# Altium integrated library microbuilder.IntLib: 530 symbols (part 7 of 7)
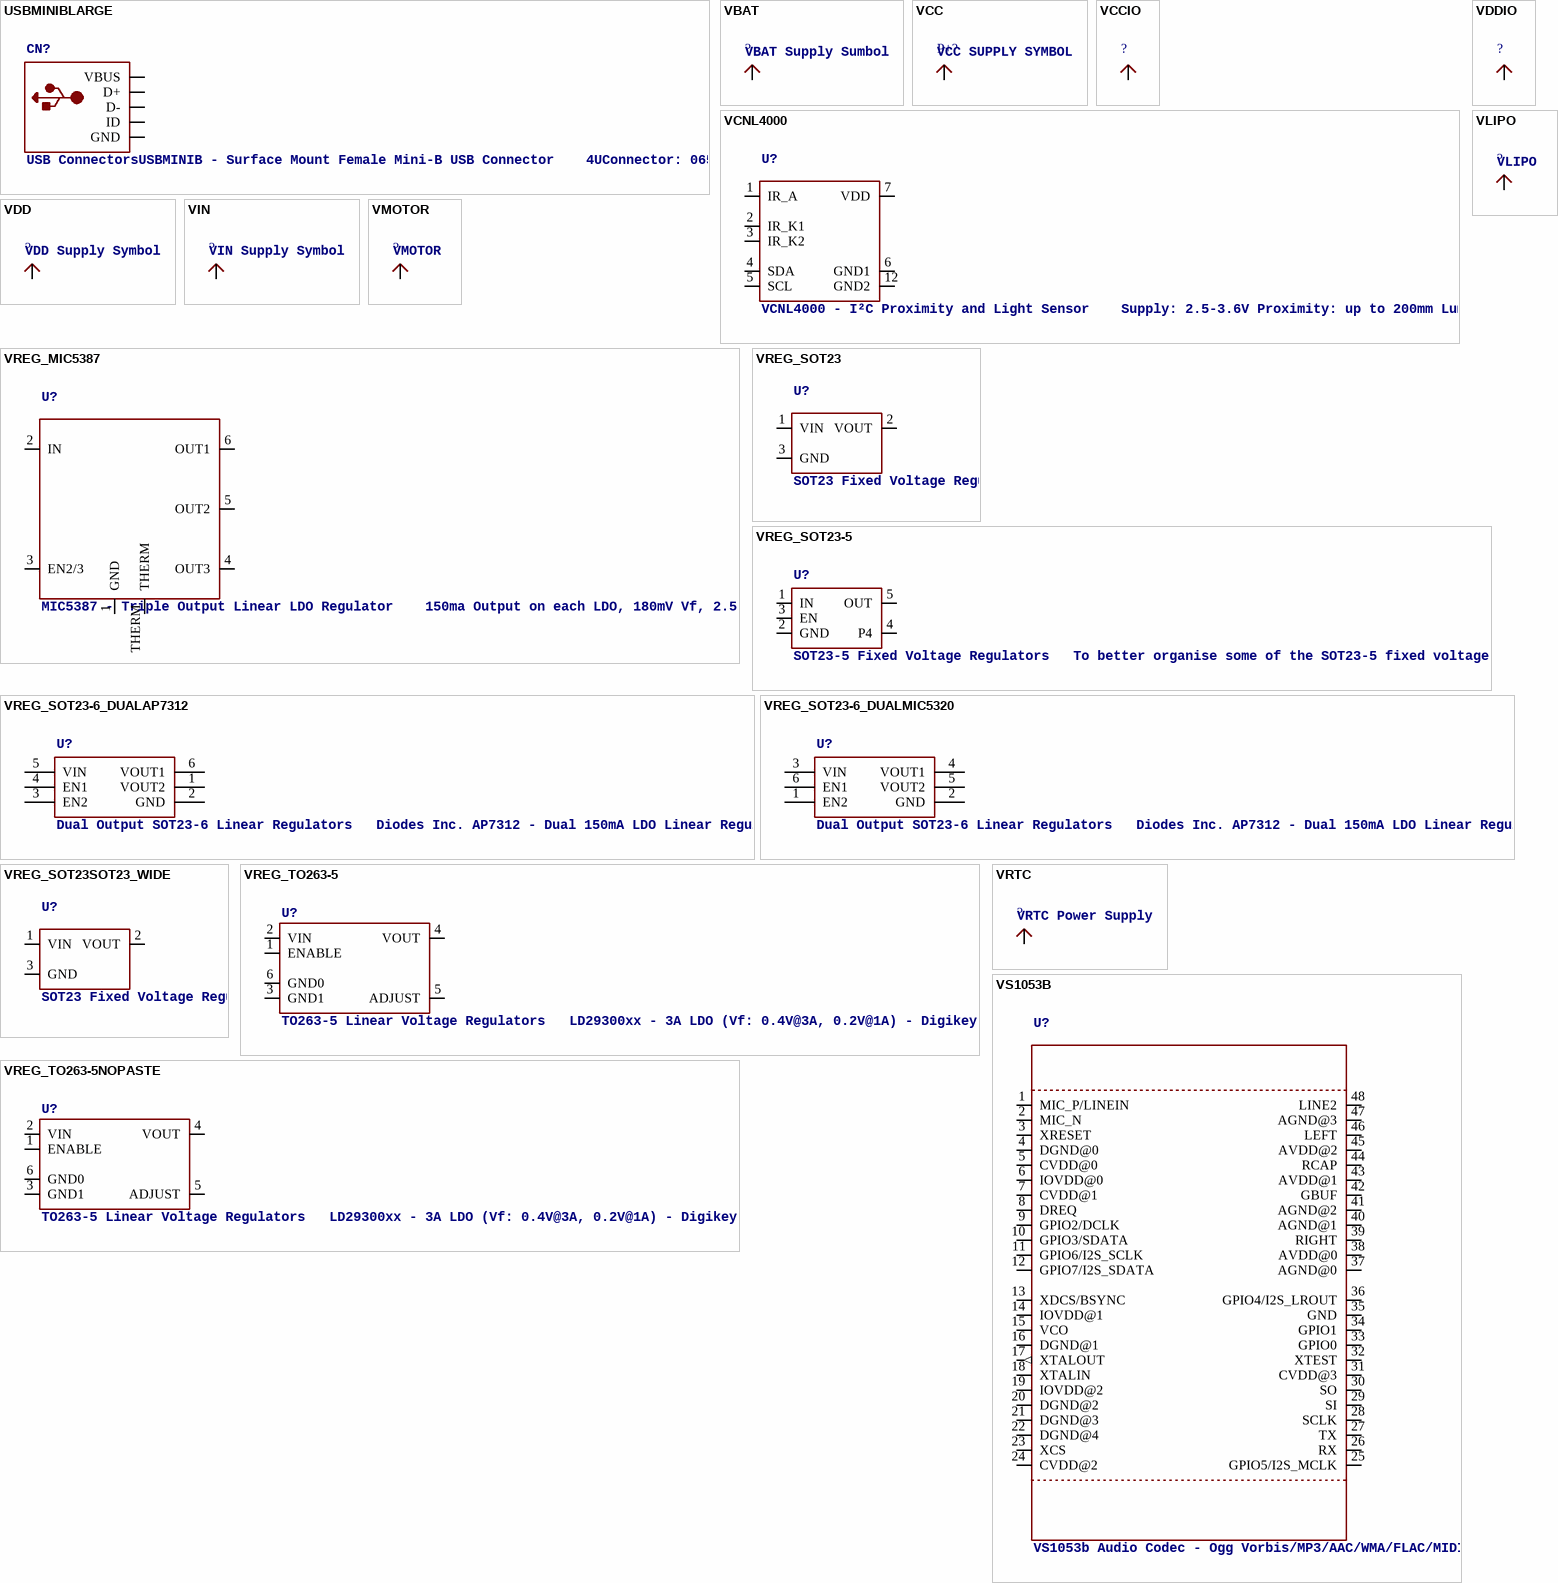
[diagram p58: symbols USBMINIBLARGE to VS1053B]

## VREG_SOT23-5
designator U?, comment SOT23-5 Fixed Voltage Regulators   To better organise some of the SOT23-5 fixed voltage regulators in this library, this new part was created.    Part	Current Out	V Out	V In	V Dropout	Digikey Part No.	     ADP121	  150mA	  3.3V	  3.4-5.5V	  0.09V @ 150mA	  ADP121-AUJZ33R7CT-ND	     ADP121	  150mA	  3.0V	  3.1-5.5V	  0.09V @ 150mA	  ADP121-AUJZ30R7CT-ND	     ADP122	  300mA	  3.3V	  3.4-5.5V	  0.085V @ 300mA	  ADP122AUJZ-3.3-R7CT-ND	     ADP1712	  300mA	  3.3V	  3.5-5.5V	  0.17V @ 300mA	  ADP1712AUJZ-3.3-R7TR-ND	     AP7311 (Low Cost)	  150mA	  3.3V	  3.5-6V	  0.15V @ 150mA	  AP7311-33WG-7DICT-ND	     LD39015M18R	  150mA	  1.8V	  1.9V-5.5V	  0.08V @ 100mA	  497-6977-1-ND	     MCP1824T-3302E/OT	  300mA	  3.3V	  3.5V-6V	  0.2V @ 300mA	  MCP1824T-3302E/OTCT-ND	     MIC5205-2.5YM5 TR	  150mA	  2.5V	  2.7-16V	  0.165V @ 150mA	  576-1257-2-ND	     MIC5205-3.0YM5 TR	  150mA	  3.0V	  3.2V-16V	  0.165V @ 150mA	  576-1258-2-ND	     MIC5205-3.3YM5 TR	  150mA	  3.3V	  3.5V-16V	  0.165V @ 150mA	  576-1259-2-ND	     TPS780330220	  150mA	  3.3V+2.2V	  3.6-5.5V	  250mV Max	  296-23332-1-ND	     TDA3663/N1,135	  100mA	  3.3V	  3.5-45V	  0.18V @ 50mA	  568-5343-1-ND
footprint SOT23-5
pins: 1 IN, 2 GND, 3 EN, 4 P4, 5 OUT

## VREG_SOT23-6_DUALAP7312
designator U?, comment Dual Output SOT23-6 Linear Regulators   Diodes Inc. AP7312 - Dual 150mA LDO Linear Regulator   0.2V dropout, 150mA output, 2-6V Input AP7312-1833W6-7 - 1.8V/3.3V SOT23-6 (Digikey: AP7312-1833W6-7DICT-ND)       MIC5320 - Dual 150mA ULDO Linear Regulator   Ultra-low 35mV dropout at 150mA, 2.3-5.5V Input 3.3V/1.8V SOT23-6 (Digikey: 576-1658-1-ND)  3.3V/1.5V SOT23-6 (Digikey: 576-3483-1-ND)
footprint SOT23-6
pins: 1 VOUT2, 2 GND, 3 EN2, 4 EN1, 5 VIN, 6 VOUT1

## VREG_SOT23-6_DUALMIC5320
designator U?, comment Dual Output SOT23-6 Linear Regulators   Diodes Inc. AP7312 - Dual 150mA LDO Linear Regulator   0.2V dropout, 150mA output, 2-6V Input AP7312-1833W6-7 - 1.8V/3.3V SOT23-6 (Digikey: AP7312-1833W6-7DICT-ND)       MIC5320 - Dual 150mA ULDO Linear Regulator   Ultra-low 35mV dropout at 150mA, 2.3-5.5V Input 3.3V/1.8V SOT23-6 (Digikey: 576-1658-1-ND)  3.3V/1.5V SOT23-6 (Digikey: 576-3483-1-ND)
footprint SOT23-6
pins: 1 EN2, 2 GND, 3 VIN, 4 VOUT1, 5 VOUT2, 6 EN1

## VREG_SOT23SOT23_WIDE
designator U?, comment SOT23 Fixed Voltage Regulators    Part	Current Out	V Out	V In	V Dropout	Digikey Part No.	     AP7313	  150mA	  3.3V	  3.5-6V	  0.15V @ 150mA	  AP7313-33SAG-7DICT-ND
footprint SOT23-WIDE
pins: 1 VIN (power), 2 VOUT (power), 3 GND (power)

## VREG_TO263-5
designator U?, comment TO263-5 Linear Voltage Regulators   LD29300xx - 3A LDO (Vf: 0.4V@3A, 0.2V@1A) - Digikey: 3.3V - 497-3475-1-ND  LD29300P2MTR - 3A LDO Adjustable - Digikey: 497-7780-1-ND, Mouser: 511-LD29300P2MTR
footprint TO263-5
pins: 1 ENABLE, 2 VIN, 3 GND1, 4 VOUT, 5 ADJUST, 6 GND0

## VREG_TO263-5NOPASTE
designator U?, comment TO263-5 Linear Voltage Regulators   LD29300xx - 3A LDO (Vf: 0.4V@3A, 0.2V@1A) - Digikey: 3.3V - 497-3475-1-ND  LD29300P2MTR - 3A LDO Adjustable - Digikey: 497-7780-1-ND, Mouser: 511-LD29300P2MTR
footprint TO263-5_NOPASTE
pins: 1 ENABLE, 2 VIN, 3 GND1, 4 VOUT, 5 ADJUST, 6 GND0

## VRTC
designator ?, comment VRTC Power Supply
pins: ?1 VRTC (oe)

## VS1053B
designator U?, comment VS1053b Audio Codec - Ogg Vorbis/MP3/AAC/WMA/FLAC/MIDI
footprint LQFP48
pins: 1 MIC_P/LINEIN, 2 MIC_N, 3 XRESET, 4 DGND@0 (oe), 5 CVDD@0 (oe), 6 IOVDD@0 (oe), 7 CVDD@1 (oe), 8 DREQ, 9 GPIO2/DCLK, 10 GPIO3/SDATA, 11 GPIO6/I2S_SCLK, 12 GPIO7/I2S_SDATA, 13 XDCS/BSYNC, 14 IOVDD@1 (oe), 15 VCO, 16 DGND@1 (oe), 17 XTALOUT (out), 18 XTALIN, 19 IOVDD@2 (oe), 20 DGND@2 (oe), 21 DGND@3 (oe), 22 DGND@4 (oe), 23 XCS, 24 CVDD@2 (oe), 25 GPIO5/I2S_MCLK, 26 RX, 27 TX, 28 SCLK, 29 SI, 30 SO, 31 CVDD@3 (oe), 32 XTEST, 33 GPIO0, 34 GPIO1, 35 GND (oe), 36 GPIO4/I2S_LROUT, 37 AGND@0 (oe), 38 AVDD@0 (oe), 39 RIGHT, 40 AGND@1 (oe), 41 AGND@2 (oe), 42 GBUF, 43 AVDD@1 (oe), 44 RCAP, 45 AVDD@2 (oe), 46 LEFT, 47 AGND@3 (oe), 48 LINE2

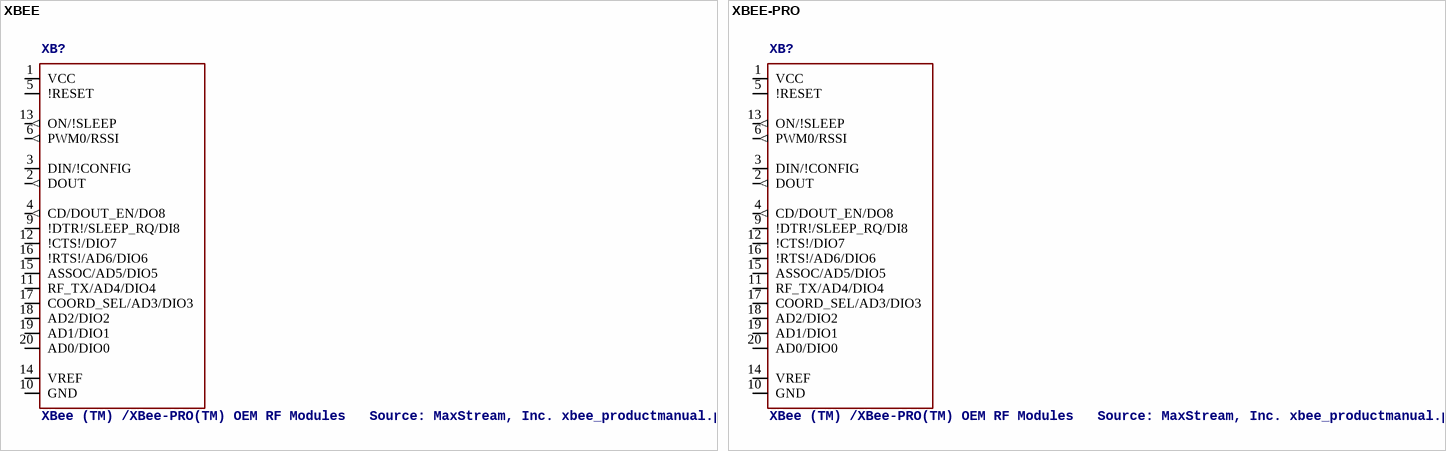
[diagram p52: symbols XBEE to XBEE-PRO]

## XBEE
designator XB?, comment XBee (TM) /XBee-PRO(TM) OEM RF Modules   Source: MaxStream, Inc. xbee_productmanual.pdf
footprint XBEE
pins: 1 VCC (power), 2 DOUT (out), 3 DIN/!CONFIG, 4 CD/DOUT_EN/DO8 (out), 5 !RESET, 6 PWM0/RSSI (out), 9 !DTR!/SLEEP_RQ/DI8, 10 GND (power), 11 RF_TX/AD4/DIO4, 12 !CTS!/DIO7, 13 ON/!SLEEP (out), 14 VREF, 15 ASSOC/AD5/DIO5, 16 !RTS!/AD6/DIO6, 17 COORD_SEL/AD3/DIO3, 18 AD2/DIO2, 19 AD1/DIO1, 20 AD0/DIO0

## XBEE-PRO
designator XB?, comment XBee (TM) /XBee-PRO(TM) OEM RF Modules   Source: MaxStream, Inc. xbee_productmanual.pdf
footprint XBEE-PRO
pins: 1 VCC (power), 2 DOUT (out), 3 DIN/!CONFIG, 4 CD/DOUT_EN/DO8 (out), 5 !RESET, 6 PWM0/RSSI (out), 9 !DTR!/SLEEP_RQ/DI8, 10 GND (power), 11 RF_TX/AD4/DIO4, 12 !CTS!/DIO7, 13 ON/!SLEEP (out), 14 VREF, 15 ASSOC/AD5/DIO5, 16 !RTS!/AD6/DIO6, 17 COORD_SEL/AD3/DIO3, 18 AD2/DIO2, 19 AD1/DIO1, 20 AD0/DIO0